# Altium footprint library HyTechDevices.PCBLIB: 298 footprints (part 18 of 19)
Each footprint in its own frame and in the unit in brackets; x right, y up, seen from the top. Pads: shape width x height; smd on the part's side, far side on the other; paste and mask are expansions set on the pad; w line width, h text height; cw(c..) or ccw(c..) is an arc to the next point about the centre after c.
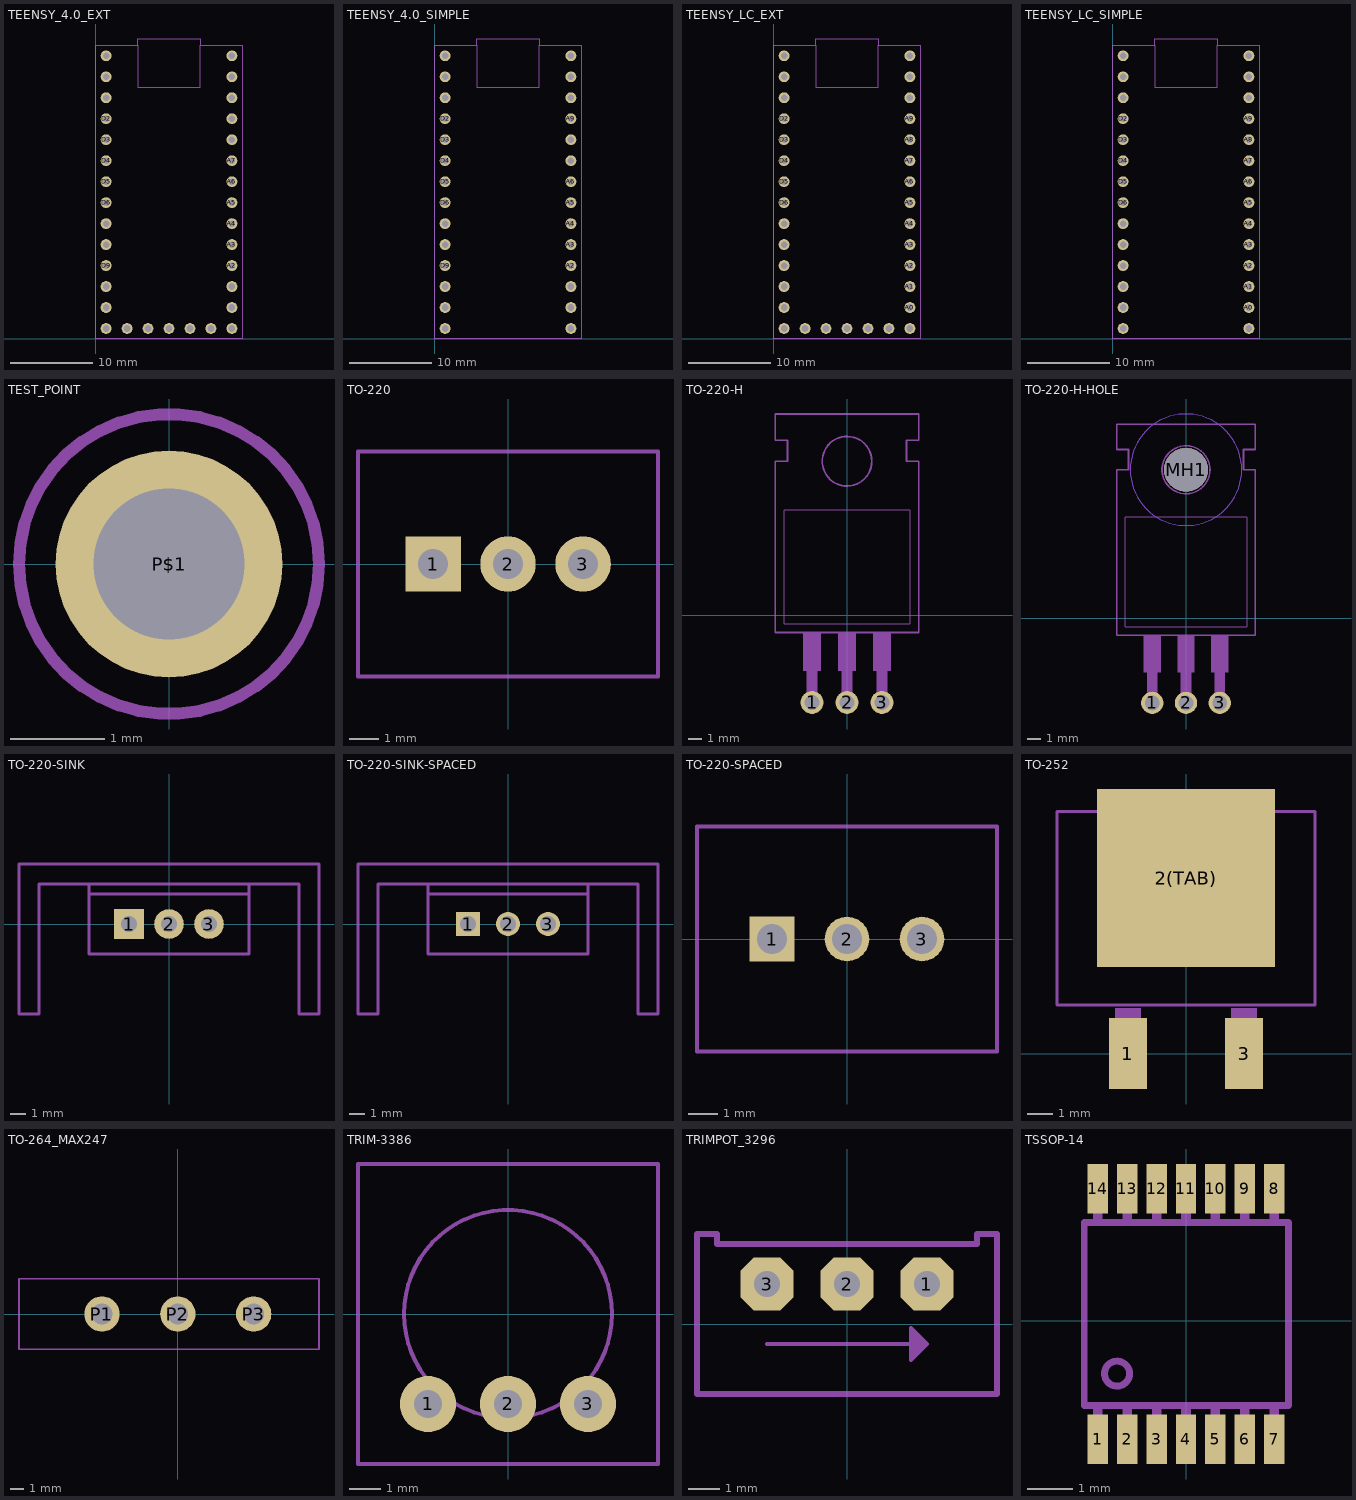
[diagram p17: the footprints below, top view; thin cyan lines are the x and y axes]

## TEENSY_4.0_EXT [mil]
pads (33):
  round 51.5 hole 31.5: 3.3V(250,50) 3.3V2(650,1150) (CANRX)A9(650,1050) (CANTX)A8(650,950) (RX3)A1(650,250) (TX3)A0(650,150) A2(650,350) A3(650,450) A4(650,550) A5(650,650) A6(650,750) A7(650,850) D0(RX1)(50,1250) D1(TX1)(50,1150) D2(50,1050) D3(50,950) D4(50,850) D5(50,750) D6(50,650) D7(RX2)(50,550) D8(TX2)(50,450) D9(50,350) D10(50,250) D11(50,150) D12(50,50) D13(650,50) GND(50,1350) GND2(350,50) GND3(650,1250) ON/OFF(550,50) PGRM(450,50) VBAT(150,50) VIN(650,1350)
Mechanical 7:
  lines w5: 200,1400 200,1430 500,1430 500,1400 ; 200,1400 0,1400 0,0 700,0 700,1400 500,1400 ; 200,1400 200,1200 500,1200 500,1400
  text "4.0" at 350,1312.5 h155

## TEENSY_4.0_SIMPLE [mil]
pads (28):
  round 51.5 hole 31.5: 3.3V(650,1150) (CANRX)A8(650,950) (CANTX)A7(650,850) (RX3)A1(650,250) (TX3)A0(650,150) A2(650,350) A3(650,450) A4(650,550) A5(650,650) A6(650,750) A9(650,1050) D0(RX1)(50,1250) D1(TX1)(50,1150) D2(50,1050) D3(50,950) D4(50,850) D5(50,750) D6(50,650) D7(RX2)(50,550) D8(TX2)(50,450) D9(50,350) D10(50,250) D11(50,150) D12(50,50) D13(650,50) GND(50,1350) GND2(650,1250) VIN(650,1350)
Mechanical 7:
  lines w5: 200,1400 200,1430 500,1430 500,1400 ; 200,1400 0,1400 0,0 700,0 700,1400 500,1400 ; 200,1400 200,1200 500,1200 500,1400
  text "4.0" at 350,1312.5 h155

## TEENSY_LC_EXT [mil]
pads (33):
  round 51.5 hole 31.5: 3.3V(250,50) 3.3V2(650,1150) A0(650,150) A1(650,250) A2(650,350) A3(650,450) A4(650,550) A5(650,650) A6(650,750) A7(650,850) A8(650,950) A9(650,1050) AGND(650,1250) D0(RX1)(50,1250) D1(TX1)(50,1150) D2(50,1050) D3(50,950) D4(50,850) D5(50,750) D6(50,650) D7(RX3)(50,550) D8(TX3)(50,450) D9(RX2)(50,350) D10(TX2)(50,250) D11(50,150) D12(50,50) D13(650,50) D17(150,50) DAC(550,50) GND(50,1350) GND2(350,50) PGRM(450,50) VIN(650,1350)
Mechanical 7:
  lines w5: 200,1400 200,1430 500,1430 500,1400 ; 200,1400 0,1400 0,0 700,0 700,1400 500,1400 ; 200,1400 200,1200 500,1200 500,1400
  text "LC" at 362.5,1312.5 h155

## TEENSY_LC_SIMPLE [mil]
pads (28):
  round 51.5 hole 31.5: 3.3V(650,1150) A0(650,150) A1(650,250) A2(650,350) A3(650,450) A4(650,550) A5(650,650) A6(650,750) A7(650,850) A8(650,950) A9(650,1050) AGND(650,1250) D0(RX1)(50,1250) D1(TX1)(50,1150) D2(50,1050) D3(50,950) D4(50,850) D5(50,750) D6(50,650) D7(RX3)(50,550) D8(TX3)(50,450) D9(RX2)(50,350) D10(TX2)(50,250) D11(50,150) D12(50,50) D13(650,50) GND(50,1350) VIN(650,1350)
Mechanical 7:
  lines w5: 200,1400 200,1430 500,1430 500,1400 ; 200,1400 0,1400 0,0 700,0 700,1400 500,1400 ; 200,1400 200,1200 500,1200 500,1400
  text "LC" at 362.5,1312.5 h155

## TEST_POINT [mil]
pads (1):
  round 94.5 hole 63: P$1(0,0)
Mechanical 7:
  circle w5: c0,0 r62.5

## TO-220 [mil]
pads (3):
  rect 74x74 / inner round 68.37 / far side rect 74x74 hole 39.37: 1(-100,0)
  round 74 hole 39.37: 2(0,0) 3(100,0)
Mechanical 7:
  lines w5: -200,-150 200,-150 200,150 -200,150 -200,-150

## TO-220-H [mil]
pads (3):
  round 66 hole 44: 1(-100,-250) 2(0,-250) 3(100,-250)
Mechanical 3:
  region: -115,-260 -115,-185 -85,-185 -85,-260
  region: -15,-260 -15,-185 15,-185 15,-260
  region: 85,-260 85,-185 115,-185 115,-260
  text "1" at -125,0 h77.5
  text "2" at -25,0 h77.5
  text "3" at 75,0 h77.5
Mechanical 7:
  circle w5: c0,440 r71
  region: 85,-185 85,-160 115,-160 115,-185
  region: -15,-185 -15,-160 15,-160 15,-185
  region: -115,-185 -115,-160 -85,-160 -85,-185
  region: -125,-160 -125,-50 -75,-50 -75,-160
  region: -25,-160 -25,-50 25,-50 25,-160
  region: 75,-160 75,-50 125,-50 125,-160
  lines w2: -180,-25 180,-25 180,300 -180,300 -180,-25
  lines w5: -205,-50 205,-50 205,440 170,440 170,500 205,500 205,575 -205,575 -205,500 -170,500 -170,440 -205,440 -205,-50

## TO-220-H-HOLE [mil]
pads (4):
  round 66 hole 44: 1(-100,-250) 2(0,-250) 3(100,-250)
  round 130 hole 130 unplated: MH1(0,440)
Top Layer keep-out:
  circle w0: c0,440 r165
Bottom Layer keep-out:
  circle w0: c0,440 r165
Mechanical 3:
  region: -115,-260 -115,-185 -85,-185 -85,-260
  region: -15,-260 -15,-185 15,-185 15,-260
  region: 85,-260 85,-185 115,-185 115,-260
  text "1" at -125,0 h77.5
  text "2" at -25,0 h77.5
  text "3" at 75,0 h77.5
Mechanical 7:
  circle w5: c0,440 r71
  circle w5: c0,440 r71
  region: 85,-185 85,-160 115,-160 115,-185
  region: -15,-185 -15,-160 15,-160 15,-185
  region: -115,-185 -115,-160 -85,-160 -85,-185
  region: -125,-160 -125,-50 -75,-50 -75,-160
  region: -25,-160 -25,-50 25,-50 25,-160
  region: 75,-160 75,-50 125,-50 125,-160
  lines w2: -180,-25 180,-25 180,300 -180,300 -180,-25
  lines w5: -205,-50 205,-50 205,440 170,440 170,500 205,500 205,575 -205,575 -205,500 -170,500 -170,440 -205,440 -205,-50

## TO-220-SINK [mil]
pads (3):
  rect 74x74 / inner round 68.37 / far side rect 74x74 hole 39.37: 1(-100,0)
  round 74 hole 39.37: 2(0,0) 3(100,0)
Mechanical 3:
  lines w8: -200,100 -325,100 -325,-225 -375,-225 -375,150 375,150 375,-225 325,-225 325,100 200,100
Mechanical 7:
  lines w8: -200,75 -200,-75 200,-75 200,75 ; -200,75 -200,100 200,100 200,75 ; -200,75 200,75

## TO-220-SINK-SPACED [mm]
pads (3):
  rect 1.508x1.508 / inner round 1.393 / far side rect 1.508x1.508 hole 1: 1(-2.54,0)
  round 1.508 hole 1: 2(0,0) 3(2.54,0)
Mechanical 3:
  lines w0.203: -5.08,2.54 -8.255,2.54 -8.255,-5.715 -9.525,-5.715 -9.525,3.81 9.525,3.81 9.525,-5.715 8.255,-5.715 8.255,2.54 5.08,2.54
Mechanical 7:
  lines w0.203: -5.08,1.905 -5.08,-1.905 5.08,-1.905 5.08,1.905 ; -5.08,1.905 -5.08,2.54 5.08,2.54 5.08,1.905 ; -5.08,1.905 5.08,1.905

## TO-220-SPACED [mm]
pads (3):
  rect 1.508x1.508 / inner round 1.393 / far side rect 1.508x1.508 hole 1: 1(-2.54,0)
  round 1.508 hole 1: 2(0,0) 3(2.54,0)
Mechanical 7:
  lines w0.127: -5.08,-3.81 5.08,-3.81 5.08,3.81 -5.08,3.81 -5.08,-3.81

## TO-252 [mil]
pads (3):
  rect 59x110 smd: 1(-90,0) 3(90,0)
  rect 276x276 smd: 2(TAB)(0,272)
Mechanical 7:
  region: -110,-30 -110,70 -70,70 -70,-30
  region: 70,-30 70,70 110,70 110,-30
  region: -120,380 -120,400 130,400 130,380
  lines w5: -200,75 200,75 200,375 -200,375 -200,75

## TO-264_MAX247 [mil]
pads (3):
  round 100 hole 59.06: P1(-215,0) P2(0,0) P3(215,0)
Mechanical 7:
  lines w5: -450,-100 400,-100 400,100 -450,100 -450,-100
  text "1" at -300,-50 h77.5

## TRIM-3386 [mil]
pads (3):
  round 70 hole 35.43: 1(-100,-112.5) 2(0,-112.5) 3(100,-112.5)
Mechanical 7:
  circle w5: c0,0 r130
  lines w5: -187.5,-187.5 187.5,-187.5 187.5,187.5 -187.5,187.5 -187.5,-187.5

## TRIMPOT_3296 [mil]
pads (3):
  oct 66x66 / inner round 60.98 / far side oct 66x66 hole 32: 1(100,50) 2(0,50) 3(-100,50)
Mechanical 3:
  lines w5: -100,-25 85,-25 ; 85,-40 90,-35 ; 85,-40 85,-25 ; 85,-40 80,-45 80,-5 85,-10 ; 85,-25 100,-25 ; 85,-25 85,-10 ; 85,-10 90,-15 ; 90,-35 90,-15 ; 90,-35 95,-30 ; 90,-15 95,-20 ; 95,-30 100,-25 ; 95,-30 95,-20 ; 95,-20 100,-25
  text "3" at 115,-75 h77.5
  text "1" at 87.5,25 h62
  text "2" at -25,25 h62
  text "3" at -125,25 h62
Mechanical 7:
  lines w7: -187.5,-87.5 -187.5,112.5 -162.5,112.5 -162.5,100 162.5,100 162.5,112.5 187.5,112.5 187.5,-87.5 -187.5,-87.5

## TSSOP-14 [mil]
pads (14):
  rect 17.72x43.31 smd: 1(-77.07,-103.06) 2(-51.48,-103.06) 3(-25.89,-103.06) 4(-0.3,-103.06) 5(25.3,-103.06) 6(50.89,-103.06) 7(76.48,-103.06) 8(76.48,114.87) 9(50.89,114.87) 10(25.3,114.87) 11(-0.3,114.87) 12(-25.89,114.87) 13(-51.48,114.87) 14(-77.07,114.87)
Mechanical 3:
  region: -81.07,-111.06 -81.07,-76.77 -73.07,-76.77 -73.07,-111.06
  region: -55.48,-111.06 -55.48,-76.77 -47.48,-76.77 -47.48,-111.06
  region: -29.89,-111.06 -29.89,-76.77 -21.89,-76.77 -21.89,-111.06
  region: -4.3,-111.06 -4.3,-76.77 3.7,-76.77 3.7,-111.06
  region: 21.3,-111.06 21.3,-76.77 29.3,-76.77 29.3,-111.06
  region: 46.89,-111.06 46.89,-76.77 54.89,-76.77 54.89,-111.06
  region: 72.48,-111.06 72.48,-76.77 80.48,-76.77 80.48,-111.06
  region: 72.48,88.58 72.48,122.87 80.48,122.87 80.48,88.58
  region: 46.89,88.58 46.89,122.87 54.89,122.87 54.89,88.58
  region: 21.3,88.58 21.3,122.87 29.3,122.87 29.3,88.58
  region: -4.3,88.58 -4.3,122.87 3.7,122.87 3.7,88.58
  region: -29.89,88.58 -29.89,122.87 -21.89,122.87 -21.89,88.58
  region: -55.48,88.58 -55.48,122.87 -47.48,122.87 -47.48,88.58
  region: -81.07,88.58 -81.07,122.87 -73.07,122.87 -73.07,88.58
Mechanical 7:
  circle w6: c-60.36,-46.03 r10.92
  lines w6: -88.88,-73.82 88.88,-73.82 88.88,85.63 -88.88,85.63 -88.88,-73.82